# EAGLE library part SFH7741 (library rfc)
3.6 V IR proximity sensor. SMD
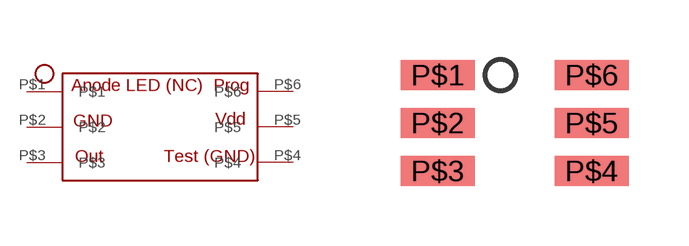
[diagram p3: symbol with the pads of SFH7741-SMD; footprint SFH7741-SMD]

Designator prefix -

## SFH7741  [SFH7741-SMD]
P$1  P$1
P$2  P$2
P$3  P$3
P$4  P$4
P$5  P$5
P$6  P$6

## Footprint SFH7741-SMD (pad centres in mm)
Custom SMD for the SFH7741 proximity sensor
smd 1.85 x 0.762: P$1 -0.3,0; P$2 -0.3,-1.2; P$3 -0.3,-2.4; P$4 3.55,-2.4; P$5 3.55,-1.2; P$6 3.55,0